# Altium integrated library NXP_60_26022015.IntLib: 1306 symbols (part 24 of 28)
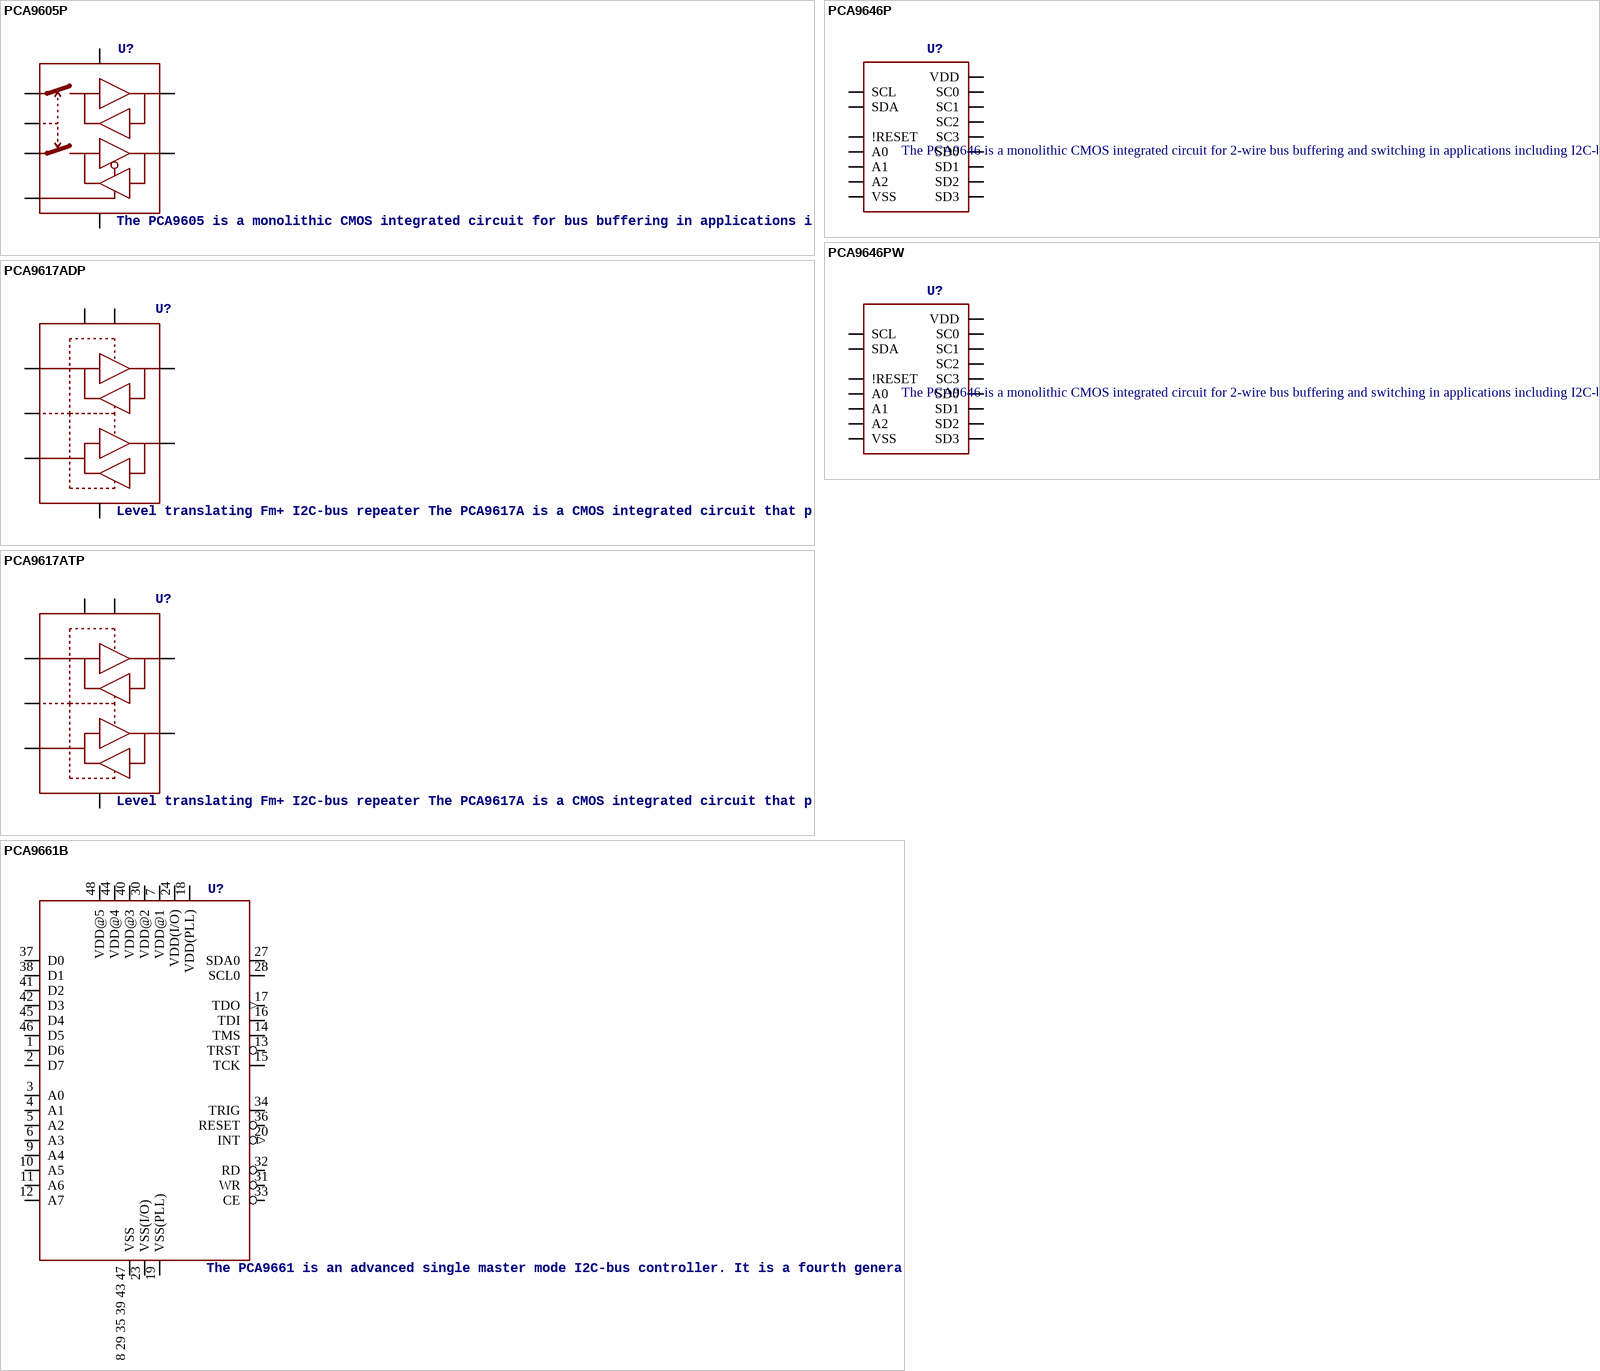
[diagram p208: symbols PCA9605P to PCA9661B]

## PCA9617ADP
designator U?, comment Level translating Fm+ I2C-bus repeater The PCA9617A is a CMOS integrated circuit that provides level shifting between low voltage (0.8 V to 5.5 V) and higher voltage (2.2 V to 5.5 V) Fast-mode Plus (Fm+) I2 C-bus or SMBus applications. While retaining all the operating modes and features of the I 2 C-bus system during the level shifts, it also permits extension of the I2 C-bus by providing bidirectional buffering for both the data (SDA) and the clock (SCL) lines, thus enabling two buses of 540 pF at 1 MHz or up to 4000 pF at lower speeds. Using the PCA9617A enables the system designer to isolate two halves of a bus for both voltage and capacitance. The SDA and SCL pins are overvoltage tolerant and are high-impedance when the PCA9617A is unpowered. The 2.2 V to 5.5 V bus port B drivers have the static level offset, while the adjustable voltage bus port A drivers eliminate the static offset voltage. This results in a LOW on the port B translating into a nearly 0 V LOW on the port A which accommodates the smaller voltage swings of lower voltage logic. The static offset design of the port B PCA9617A I/O drivers prevents them from being connected to the static or incremented offset of other bus buffers. Port A of two or more PCA9617As can be connected together, however, to allow a star topography with port A on the common bus, and port A can be connected directly to any other buffer with static or incremented offset outputs. Multiple PCA9617As can be connected in series, port A to port B, with no build-up in offset voltage with only time of flight delays to consider. The PCA9617A drivers are not enabled unless VCC(A) is above 0.8 V and VCC(B) is above 2.2 V. The EN pin is referenced to VCC(B) and can also be used to turn the drivers on and off under system control. Caution should be observed to only change the state of the enable pin when the bus is idle. The output pull-down on the port B internal buffer LOW is set for approximately 0.55 V, while the input threshold of the internal buffer is set about 90 mV lower (0.45 V). When the port B I/O is driven LOW internally, the LOW is not recognized as a LOW by the input. This prevents a latching condition from occurring. The output pull-down on port A drives a hard LOW and the input level is set at 0.35VCC(A) to accommodate the need for a lower LOW level in systems where the low voltage side supply voltage is as low as 0.8 V.    AAL Eindhoven MK
footprint SOT505-1
pins: 1 VCC(A) (power), 2 SCLA, 3 SDAA, 4 GND (power), 5 EN, 6 SDAB, 7 SCLB, 8 VCC(B) (power)

## PCA9617ATP
designator U?, comment Level translating Fm+ I2C-bus repeater The PCA9617A is a CMOS integrated circuit that provides level shifting between low voltage (0.8 V to 5.5 V) and higher voltage (2.2 V to 5.5 V) Fast-mode Plus (Fm+) I2 C-bus or SMBus applications. While retaining all the operating modes and features of the I 2 C-bus system during the level shifts, it also permits extension of the I2 C-bus by providing bidirectional buffering for both the data (SDA) and the clock (SCL) lines, thus enabling two buses of 540 pF at 1 MHz or up to 4000 pF at lower speeds. Using the PCA9617A enables the system designer to isolate two halves of a bus for both voltage and capacitance. The SDA and SCL pins are overvoltage tolerant and are high-impedance when the PCA9617A is unpowered. The 2.2 V to 5.5 V bus port B drivers have the static level offset, while the adjustable voltage bus port A drivers eliminate the static offset voltage. This results in a LOW on the port B translating into a nearly 0 V LOW on the port A which accommodates the smaller voltage swings of lower voltage logic. The static offset design of the port B PCA9617A I/O drivers prevents them from being connected to the static or incremented offset of other bus buffers. Port A of two or more PCA9617As can be connected together, however, to allow a star topography with port A on the common bus, and port A can be connected directly to any other buffer with static or incremented offset outputs. Multiple PCA9617As can be connected in series, port A to port B, with no build-up in offset voltage with only time of flight delays to consider. The PCA9617A drivers are not enabled unless VCC(A) is above 0.8 V and VCC(B) is above 2.2 V. The EN pin is referenced to VCC(B) and can also be used to turn the drivers on and off under system control. Caution should be observed to only change the state of the enable pin when the bus is idle. The output pull-down on the port B internal buffer LOW is set for approximately 0.55 V, while the input threshold of the internal buffer is set about 90 mV lower (0.45 V). When the port B I/O is driven LOW internally, the LOW is not recognized as a LOW by the input. This prevents a latching condition from occurring. The output pull-down on port A drives a hard LOW and the input level is set at 0.35VCC(A) to accommodate the need for a lower LOW level in systems where the low voltage side supply voltage is as low as 0.8 V.    AAL Eindhoven MK
footprint SOT1069-2
pins: 1 SDAA, 2 GND (power), 3 EN, 4 SDAB, 5 SCLB, 6 VCC(B) (power), 7 VCC(A) (power), 8 SCLA

## PCA9646P
designator U?, comment The PCA9646 is a monolithic CMOS integrated circuit for 2-wire bus buffering and switching in applications including I2C-bus, SMBus, PMBus, and other systems based on similar principles.   AAL Eindhoven MK
footprint SOT109-1
pins: 1 A0, 2 A1, 3 !RESET, 4 SD0, 5 SC0, 6 SD1, 7 SC1, 8 VSS (power), 9 SD2, 10 SC2, 11 SD3, 12 SC3, 13 A2, 14 SCL, 15 SDA, 16 VDD (power)

## PCA9646PW
designator U?, comment The PCA9646 is a monolithic CMOS integrated circuit for 2-wire bus buffering and switching in applications including I2C-bus, SMBus, PMBus, and other systems based on similar principles.   AAL Eindhoven MK
footprint SOT403-1
pins: 1 A0, 2 A1, 3 !RESET, 4 SD0, 5 SC0, 6 SD1, 7 SC1, 8 VSS (power), 9 SD2, 10 SC2, 11 SD3, 12 SC3, 13 A2, 14 SCL, 15 SDA, 16 VDD (power)

## PCA9661B
designator U?, comment The PCA9661 is an advanced single master mode I2C-bus controller. It is a fourth generation bus controller designed for data intensive I2C-bus data transfers. AAL Eindhoven MK
footprint SOT313-2
pins: 1 D6, 2 D7, 3 A0, 4 A1, 5 A2, 6 A3, 7 VDD@1 (power), 8 29 35 39 43 47 VSS (power), 9 A4, 10 A5, 11 A6, 12 A7, 13 TRST, 14 TMS, 15 TCK, 16 TDI, 17 TDO (out), 18 VDD(PLL) (power), 19 VSS(PLL) (power), 20 INT (out), 23 VSS(I/O) (power), 24 VDD(I/O) (power), 27 SDA0, 28 SCL0, 30 VDD@2 (power), 31 WR, 32 RD, 33 CE, 34 TRIG, 36 RESET, 37 D0, 38 D1, 40 VDD@3 (power), 41 D2, 42 D3, 44 VDD@4 (power), 45 D4, 46 D5, 48 VDD@5 (power)

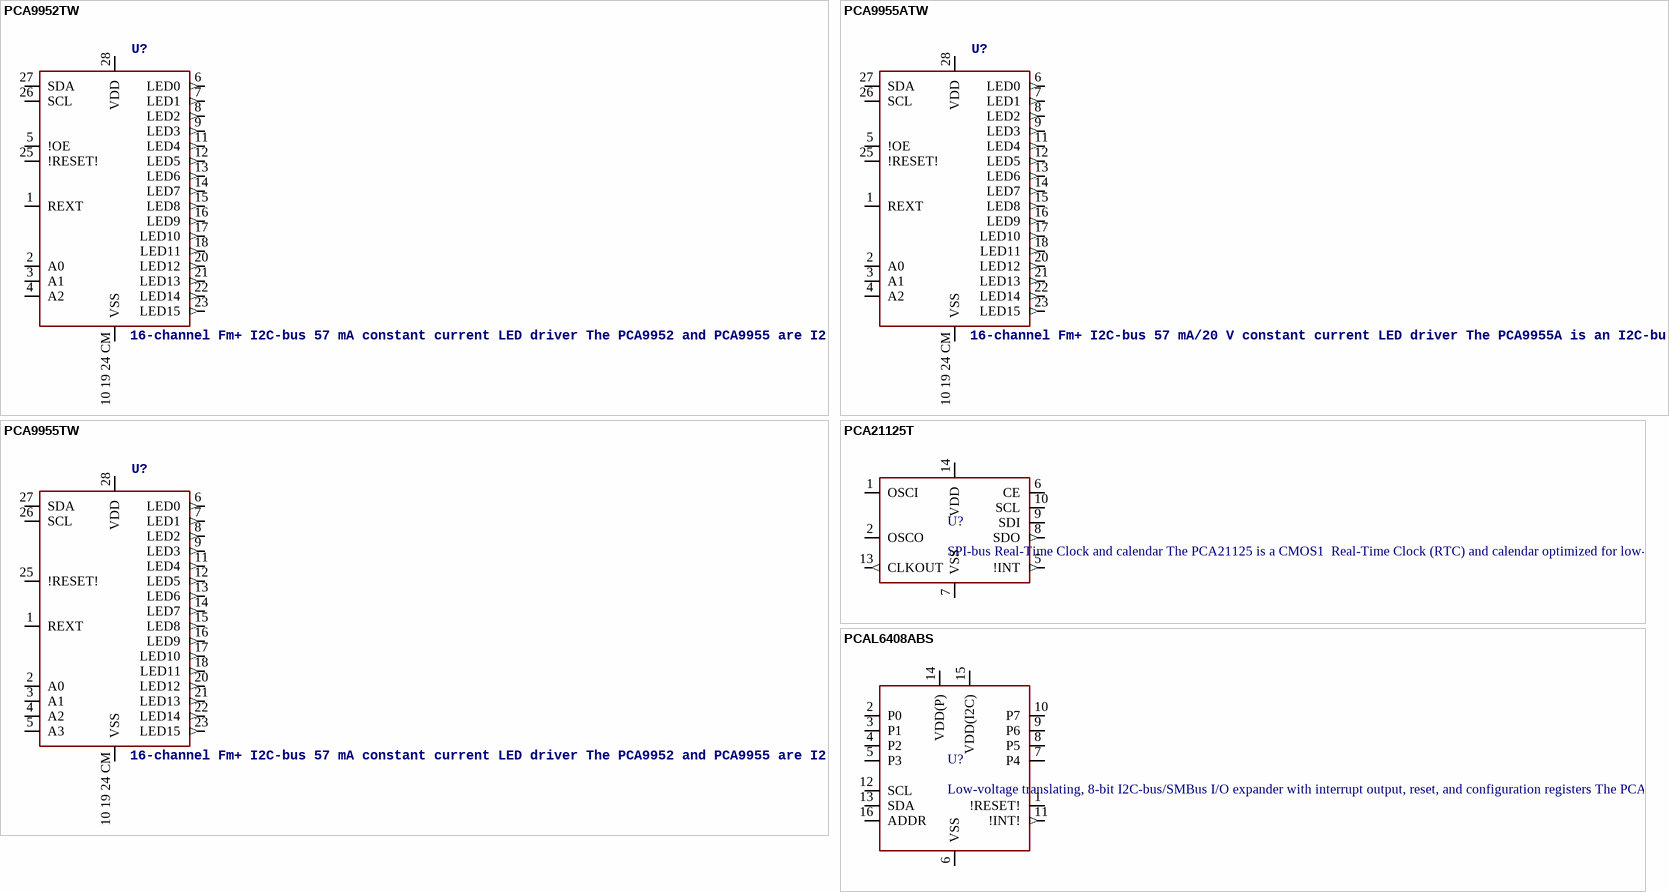
[diagram p161: symbols PCA9952TW to PCAL6408ABS]

## PCA9952TW
designator U?, comment 16-channel Fm+ I2C-bus 57 mA constant current LED driver The PCA9952 and PCA9955 are I2 C-bus controlled 16-channel constant current LED driver optimized for dimming and blinking 57 mA Red/Green/Blue/Amber (RGBA) LEDs in amusement products. Each LEDn output has its own 8-bit resolution (256 steps) fixed frequency individual PWM controller that operates at 31.25 kHz with a duty cycle that is adjustable from 0 % to 99.6 % to allow the LED to be set to a specific brightness value. An additional 8-bit resolution (256 steps) group PWM controller has both a fixed frequency of 122 Hz and an adjustable frequency between 15 Hz to once every 16.8 seconds with a duty cycle that is adjustable from 0 % to 99.6 % that is used to either dim or blink all LEDs with the same value. Each LEDn output can be off, on (no PWM control), set at its individual PWM controller value or at both individual and group PWM controller values. The PCA9952 and PCA9955 operate with a supply voltage range of 3 V to 5.5 V and the constant current sink LEDn outputs allow up to 40 V for the LED supply. The output peak current is adjustable with an 8-bit linear DAC from 225 uA to 57 mA. These devices have built-in open, short load and overtemperature detection circuitry. The error information from the corresponding register can be read via the I2 C-bus. Additionally, a thermal shutdown feature protects the device when internal junction temperature exceeds the limit allowed for the process. The PCA9952 and PCA9955 devices have Fast-mode Plus (Fm+) I2 C-bus interface. Fm+ devices offer higher frequency (up to 1 MHz) or more densely populated bus operation (up to 4000 pF). The PCA9952 is identical to PCA9955 except for the following differences: The PCA9952 has only three hardware address pins compared to four on PCA9955.  The PCA9952 has an output enable pin (OE) and the PCA9955 does not.   The active LOW output enable input pin (OE), available only on PCA9952, blinks all the LEDn outputs and can be used to externally PWM the outputs, which is useful when multiple devices need to be dimmed or blinked together without using software control. Software programmable LED Group and three Sub Call I2 C-bus addresses allow all or defined groups of PCA9952/55 devices to respond to a common I2 C-bus address, allowing for example, all red LEDs to be turned on or off at the same time or marquee chasing effect, thus minimizing I2 C-bus commands. On power-up, PCA9952/55 will have a unique Sub Call address to identify it as a 16-channel LED driver. This allows mixing of devices with different channel widths. Four hardware address pins on PCA9955 allow up to 16 devices on the same bus. In the case of PCA9952, three hardware address pins allow up to 8 devices on the same bus. The Software Reset (SWRST) function allows the master to perform a reset of the PCA9952/55 through the I2 C-bus, identical to the Power-On Reset (POR) that initializes the registers to their default state causing the output current switches to be OFF (LED off). This allows an easy and quick way to reconfigure all device registers to the same condition.    AAL Eindhoven MK
footprint SOT1172-2
pins: 1 REXT, 2 A0, 3 A1, 4 A2, 5 !OE, 6 LED0 (out), 7 LED1 (out), 8 LED2 (out), 9 LED3 (out), 10 19 24 CM VSS (power), 11 LED4 (out), 12 LED5 (out), 13 LED6 (out), 14 LED7 (out), 15 LED8 (out), 16 LED9 (out), 17 LED10 (out), 18 LED11 (out), 20 LED12 (out), 21 LED13 (out), 22 LED14 (out), 23 LED15 (out), 25 !RESET!, 26 SCL, 27 SDA, 28 VDD (power)

## PCA9955ATW
designator U?, comment 16-channel Fm+ I2C-bus 57 mA/20 V constant current LED driver The PCA9955A is an I2C-bus controlled 16-channel constant current LED driver optimized for dimming and blinking 57 mA Red/Green/Blue/Amber (RGBA) LEDs in amusement products. Each LED output has its own 8-bit resolution (256 steps) fixed frequency individual PWM controller that operates at 31.25 kHz with a duty cycle that is adjustable from 0 % to 100 % to allow the LED to be set to a specific brightness value. An additional 8-bit resolution (256 steps) group PWM controller has both a fixed frequency of 122 Hz and an adjustable frequency between 15 Hz to once every 16.8 seconds with a duty cycle that is adjustable from 0 % to 99.6 % that is used to either dim or blink all LEDs with the same value.    AAL Eindhoven MK
footprint SOT1172-3
pins: 1 REXT, 2 A0, 3 A1, 4 A2, 5 !OE, 6 LED0 (out), 7 LED1 (out), 8 LED2 (out), 9 LED3 (out), 10 19 24 CM VSS (power), 11 LED4 (out), 12 LED5 (out), 13 LED6 (out), 14 LED7 (out), 15 LED8 (out), 16 LED9 (out), 17 LED10 (out), 18 LED11 (out), 20 LED12 (out), 21 LED13 (out), 22 LED14 (out), 23 LED15 (out), 25 !RESET!, 26 SCL, 27 SDA, 28 VDD (power)

## PCA9955TW
designator U?, comment 16-channel Fm+ I2C-bus 57 mA constant current LED driver The PCA9952 and PCA9955 are I2 C-bus controlled 16-channel constant current LED driver optimized for dimming and blinking 57 mA Red/Green/Blue/Amber (RGBA) LEDs in amusement products. Each LEDn output has its own 8-bit resolution (256 steps) fixed frequency individual PWM controller that operates at 31.25 kHz with a duty cycle that is adjustable from 0 % to 99.6 % to allow the LED to be set to a specific brightness value. An additional 8-bit resolution (256 steps) group PWM controller has both a fixed frequency of 122 Hz and an adjustable frequency between 15 Hz to once every 16.8 seconds with a duty cycle that is adjustable from 0 % to 99.6 % that is used to either dim or blink all LEDs with the same value. Each LEDn output can be off, on (no PWM control), set at its individual PWM controller value or at both individual and group PWM controller values. The PCA9952 and PCA9955 operate with a supply voltage range of 3 V to 5.5 V and the constant current sink LEDn outputs allow up to 40 V for the LED supply. The output peak current is adjustable with an 8-bit linear DAC from 225 uA to 57 mA. These devices have built-in open, short load and overtemperature detection circuitry. The error information from the corresponding register can be read via the I2 C-bus. Additionally, a thermal shutdown feature protects the device when internal junction temperature exceeds the limit allowed for the process. The PCA9952 and PCA9955 devices have Fast-mode Plus (Fm+) I2 C-bus interface. Fm+ devices offer higher frequency (up to 1 MHz) or more densely populated bus operation (up to 4000 pF). The PCA9952 is identical to PCA9955 except for the following differences: The PCA9952 has only three hardware address pins compared to four on PCA9955.  The PCA9952 has an output enable pin (OE) and the PCA9955 does not.   The active LOW output enable input pin (OE), available only on PCA9952, blinks all the LEDn outputs and can be used to externally PWM the outputs, which is useful when multiple devices need to be dimmed or blinked together without using software control. Software programmable LED Group and three Sub Call I2 C-bus addresses allow all or defined groups of PCA9952/55 devices to respond to a common I2 C-bus address, allowing for example, all red LEDs to be turned on or off at the same time or marquee chasing effect, thus minimizing I2 C-bus commands. On power-up, PCA9952/55 will have a unique Sub Call address to identify it as a 16-channel LED driver. This allows mixing of devices with different channel widths. Four hardware address pins on PCA9955 allow up to 16 devices on the same bus. In the case of PCA9952, three hardware address pins allow up to 8 devices on the same bus. The Software Reset (SWRST) function allows the master to perform a reset of the PCA9952/55 through the I2 C-bus, identical to the Power-On Reset (POR) that initializes the registers to their default state causing the output current switches to be OFF (LED off). This allows an easy and quick way to reconfigure all device registers to the same condition.    AAL Eindhoven MK
footprint SOT1172-2
pins: 1 REXT, 2 A0, 3 A1, 4 A2, 5 A3, 6 LED0 (out), 7 LED1 (out), 8 LED2 (out), 9 LED3 (out), 10 19 24 CM VSS (power), 11 LED4 (out), 12 LED5 (out), 13 LED6 (out), 14 LED7 (out), 15 LED8 (out), 16 LED9 (out), 17 LED10 (out), 18 LED11 (out), 20 LED12 (out), 21 LED13 (out), 22 LED14 (out), 23 LED15 (out), 25 !RESET!, 26 SCL, 27 SDA, 28 VDD (power)

## PCA21125T
designator U?, comment SPI-bus Real-Time Clock and calendar The PCA21125 is a CMOS1  Real-Time Clock (RTC) and calendar optimized for low-power consumption and an operating temperature up to 125 °C. Data is transferred via a Serial Peripheral Interface (SPI-bus) with a maximum data rate of 6.0 Mbit/s. Alarm and timer functions are also available with the possibility to generate a wake-up signal on the interrupt pin. AEC Q100 compliant for automotive applications.    AAL Eindhoven MK
footprint SOT402-1
pins: 1 OSCI, 2 OSCO, 5 !INT (out), 6 CE, 7 VSS (power), 8 SDO (out), 9 SDI, 10 SCL, 13 CLKOUT (out), 14 VDD (power)

## PCAL6408ABS
designator U?, comment Low-voltage translating, 8-bit I2C-bus/SMBus I/O expander with interrupt output, reset, and configuration registers The PCAL6408A is an 8-bit general purpose I/O expander that provides remote I/O expansion for most microcontroller families via the I2C-bus interface.    AAL Eindhoven MK
footprint SOT758-1
pins: 1 !RESET!, 2 P0, 3 P1, 4 P2, 5 P3, 6 VSS, 7 P4, 8 P5, 9 P6, 10 P7, 11 !INT! (out), 12 SCL, 13 SDA, 14 VDD(P) (power), 15 VDD(I2C) (power), 16 ADDR

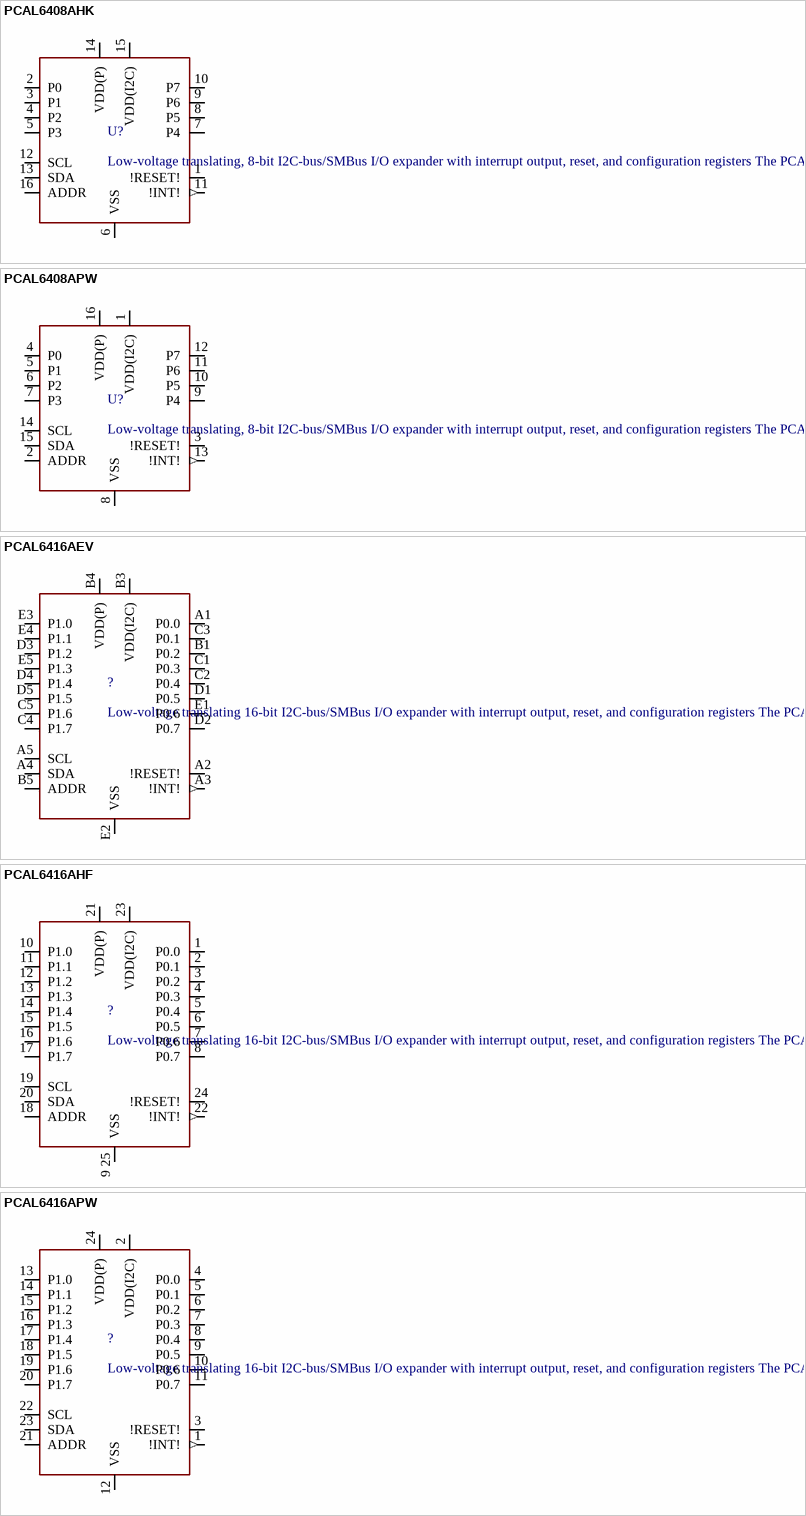
[diagram p162: symbols PCAL6408AHK to PCAL6416APW]

## PCAL6408AHK
designator U?, comment Low-voltage translating, 8-bit I2C-bus/SMBus I/O expander with interrupt output, reset, and configuration registers The PCAL6408A is an 8-bit general purpose I/O expander that provides remote I/O expansion for most microcontroller families via the I2C-bus interface.    AAL Eindhoven MK
footprint SOT1161-1
pins: 1 !RESET!, 2 P0, 3 P1, 4 P2, 5 P3, 6 VSS, 7 P4, 8 P5, 9 P6, 10 P7, 11 !INT! (out), 12 SCL, 13 SDA, 14 VDD(P) (power), 15 VDD(I2C) (power), 16 ADDR

## PCAL6408APW
designator U?, comment Low-voltage translating, 8-bit I2C-bus/SMBus I/O expander with interrupt output, reset, and configuration registers The PCAL6408A is an 8-bit general purpose I/O expander that provides remote I/O expansion for most microcontroller families via the I2C-bus interface.    AAL Eindhoven MK
footprint SOT403-1
pins: 1 VDD(I2C) (power), 2 ADDR, 3 !RESET!, 4 P0, 5 P1, 6 P2, 7 P3, 8 VSS, 9 P4, 10 P5, 11 P6, 12 P7, 13 !INT! (out), 14 SCL, 15 SDA, 16 VDD(P) (power)

## PCAL6416AEV
designator ?, comment Low-voltage translating 16-bit I2C-bus/SMBus I/O expander with interrupt output, reset, and configuration registers The PCAL6416A is a 16-bit general-purpose I/O expander that provides remote I/O expansion for most microcontroller families via the I2C-bus interface. NXP I/O expanders provide a simple solution when additional I/Os are needed while keeping interconnections to a minimum, for example, in battery-powered mobile applications for interfacing to sensors, push buttons, keypad, etc. In addition to providing a flexible set of GPIOs, it simplifies interconnection of a processor running at one voltage level to I/O devices operating at a different (usually higher) voltage level. The PCAL6416A has built-in level shifting feature that makes these devices extremely flexible in mixed signal environments where communication between incompatible I/O voltages is required. Its wide VDD range of 1.65 V to 5.5 V on the dual power rail allows seamless communications with next-generation low voltage microprocessors and microcontrollers on the interface side (SDA/SCL) and peripherals at a higher voltage on the port side. There are two supply voltages for PCAL6416A: VDD(I2C-bus) and VDD(P). VDD(I2C-bus) provides the supply voltage for the interface at the master side (for example, a microcontroller) and the VDD(P) provides the supply for core circuits and Port P. The bidirectional voltage level translation in the PCAL6416A is provided through VDD(I2C-bus). VDD(I2C-bus) should be connected to the VDD of the external SCL/SDA lines. This indicates the VDD level of the I2C-bus to the PCAL6416A, while the voltage level on Port P of the PCAL6416A is determined by the VDD(P). The PCAL6416A contains the PCA6416A register set of four pairs of 8-bit Configuration, Input, Output, and Polarity Inversion registers and additionally, the PCAL6416A has Agile I/O, which are additional features specifically designed to enhance the I/O. These additional features are: programmable output drive strength, latchable inputs, programmable pull-up/pull-down resistors, maskable interrupt, interrupt status register, programmable open-drain or push-pull outputs. The PCAL6416A is a pin-to-pin replacement to the PCA6416A, however, the PCAL6416A powers up with all I/O interrupts masked. This mask default allows for a board bring-up free of spurious interrupts at power-up. At power-on, the I/Os are configured as inputs. However, the system master can enable the I/Os as either inputs or outputs by writing to the I/O configuration bits. The data for each input or output is kept in the corresponding input or output register. The polarity of the Input Port register can be inverted with the Polarity Inversion register, saving external logic gates. Programmable pull-up and pull-down resistors eliminate the need for discrete components.    AAL Eindhoven MK
footprint SOT1199-1
pins: A1 P0.0, A2 !RESET!, A3 !INT! (out), A4 SDA, A5 SCL, B1 P0.2, B3 VDD(I2C) (power), B4 VDD(P) (power), B5 ADDR, C1 P0.3, C2 P0.4, C3 P0.1, C4 P1.7, C5 P1.6, D1 P0.5, D2 P0.7, D3 P1.2, D4 P1.4, D5 P1.5, E1 P0.6, E2 VSS, E3 P1.0, E4 P1.1, E5 P1.3

## PCAL6416AHF
designator ?, comment Low-voltage translating 16-bit I2C-bus/SMBus I/O expander with interrupt output, reset, and configuration registers The PCAL6416A is a 16-bit general-purpose I/O expander that provides remote I/O expansion for most microcontroller families via the I2C-bus interface. NXP I/O expanders provide a simple solution when additional I/Os are needed while keeping interconnections to a minimum, for example, in battery-powered mobile applications for interfacing to sensors, push buttons, keypad, etc. In addition to providing a flexible set of GPIOs, it simplifies interconnection of a processor running at one voltage level to I/O devices operating at a different (usually higher) voltage level. The PCAL6416A has built-in level shifting feature that makes these devices extremely flexible in mixed signal environments where communication between incompatible I/O voltages is required. Its wide VDD range of 1.65 V to 5.5 V on the dual power rail allows seamless communications with next-generation low voltage microprocessors and microcontrollers on the interface side (SDA/SCL) and peripherals at a higher voltage on the port side. There are two supply voltages for PCAL6416A: VDD(I2C-bus) and VDD(P). VDD(I2C-bus) provides the supply voltage for the interface at the master side (for example, a microcontroller) and the VDD(P) provides the supply for core circuits and Port P. The bidirectional voltage level translation in the PCAL6416A is provided through VDD(I2C-bus). VDD(I2C-bus) should be connected to the VDD of the external SCL/SDA lines. This indicates the VDD level of the I2C-bus to the PCAL6416A, while the voltage level on Port P of the PCAL6416A is determined by the VDD(P). The PCAL6416A contains the PCA6416A register set of four pairs of 8-bit Configuration, Input, Output, and Polarity Inversion registers and additionally, the PCAL6416A has Agile I/O, which are additional features specifically designed to enhance the I/O. These additional features are: programmable output drive strength, latchable inputs, programmable pull-up/pull-down resistors, maskable interrupt, interrupt status register, programmable open-drain or push-pull outputs. The PCAL6416A is a pin-to-pin replacement to the PCA6416A, however, the PCAL6416A powers up with all I/O interrupts masked. This mask default allows for a board bring-up free of spurious interrupts at power-up. At power-on, the I/Os are configured as inputs. However, the system master can enable the I/Os as either inputs or outputs by writing to the I/O configuration bits. The data for each input or output is kept in the corresponding input or output register. The polarity of the Input Port register can be inverted with the Polarity Inversion register, saving external logic gates. Programmable pull-up and pull-down resistors eliminate the need for discrete components.    AAL Eindhoven MK
footprint SOT994-1
pins: 1 P0.0, 2 P0.1, 3 P0.2, 4 P0.3, 5 P0.4, 6 P0.5, 7 P0.6, 8 P0.7, 9 25 VSS, 10 P1.0, 11 P1.1, 12 P1.2, 13 P1.3, 14 P1.4, 15 P1.5, 16 P1.6, 17 P1.7, 18 ADDR, 19 SCL, 20 SDA, 21 VDD(P) (power), 22 !INT! (out), 23 VDD(I2C) (power), 24 !RESET!

## PCAL6416APW
designator ?, comment Low-voltage translating 16-bit I2C-bus/SMBus I/O expander with interrupt output, reset, and configuration registers The PCAL6416A is a 16-bit general-purpose I/O expander that provides remote I/O expansion for most microcontroller families via the I2C-bus interface. NXP I/O expanders provide a simple solution when additional I/Os are needed while keeping interconnections to a minimum, for example, in battery-powered mobile applications for interfacing to sensors, push buttons, keypad, etc. In addition to providing a flexible set of GPIOs, it simplifies interconnection of a processor running at one voltage level to I/O devices operating at a different (usually higher) voltage level. The PCAL6416A has built-in level shifting feature that makes these devices extremely flexible in mixed signal environments where communication between incompatible I/O voltages is required. Its wide VDD range of 1.65 V to 5.5 V on the dual power rail allows seamless communications with next-generation low voltage microprocessors and microcontrollers on the interface side (SDA/SCL) and peripherals at a higher voltage on the port side. There are two supply voltages for PCAL6416A: VDD(I2C-bus) and VDD(P). VDD(I2C-bus) provides the supply voltage for the interface at the master side (for example, a microcontroller) and the VDD(P) provides the supply for core circuits and Port P. The bidirectional voltage level translation in the PCAL6416A is provided through VDD(I2C-bus). VDD(I2C-bus) should be connected to the VDD of the external SCL/SDA lines. This indicates the VDD level of the I2C-bus to the PCAL6416A, while the voltage level on Port P of the PCAL6416A is determined by the VDD(P). The PCAL6416A contains the PCA6416A register set of four pairs of 8-bit Configuration, Input, Output, and Polarity Inversion registers and additionally, the PCAL6416A has Agile I/O, which are additional features specifically designed to enhance the I/O. These additional features are: programmable output drive strength, latchable inputs, programmable pull-up/pull-down resistors, maskable interrupt, interrupt status register, programmable open-drain or push-pull outputs. The PCAL6416A is a pin-to-pin replacement to the PCA6416A, however, the PCAL6416A powers up with all I/O interrupts masked. This mask default allows for a board bring-up free of spurious interrupts at power-up. At power-on, the I/Os are configured as inputs. However, the system master can enable the I/Os as either inputs or outputs by writing to the I/O configuration bits. The data for each input or output is kept in the corresponding input or output register. The polarity of the Input Port register can be inverted with the Polarity Inversion register, saving external logic gates. Programmable pull-up and pull-down resistors eliminate the need for discrete components.    AAL Eindhoven MK
footprint SOT355-1
pins: 1 !INT! (out), 2 VDD(I2C) (power), 3 !RESET!, 4 P0.0, 5 P0.1, 6 P0.2, 7 P0.3, 8 P0.4, 9 P0.5, 10 P0.6, 11 P0.7, 12 VSS, 13 P1.0, 14 P1.1, 15 P1.2, 16 P1.3, 17 P1.4, 18 P1.5, 19 P1.6, 20 P1.7, 21 ADDR, 22 SCL, 23 SDA, 24 VDD(P) (power)

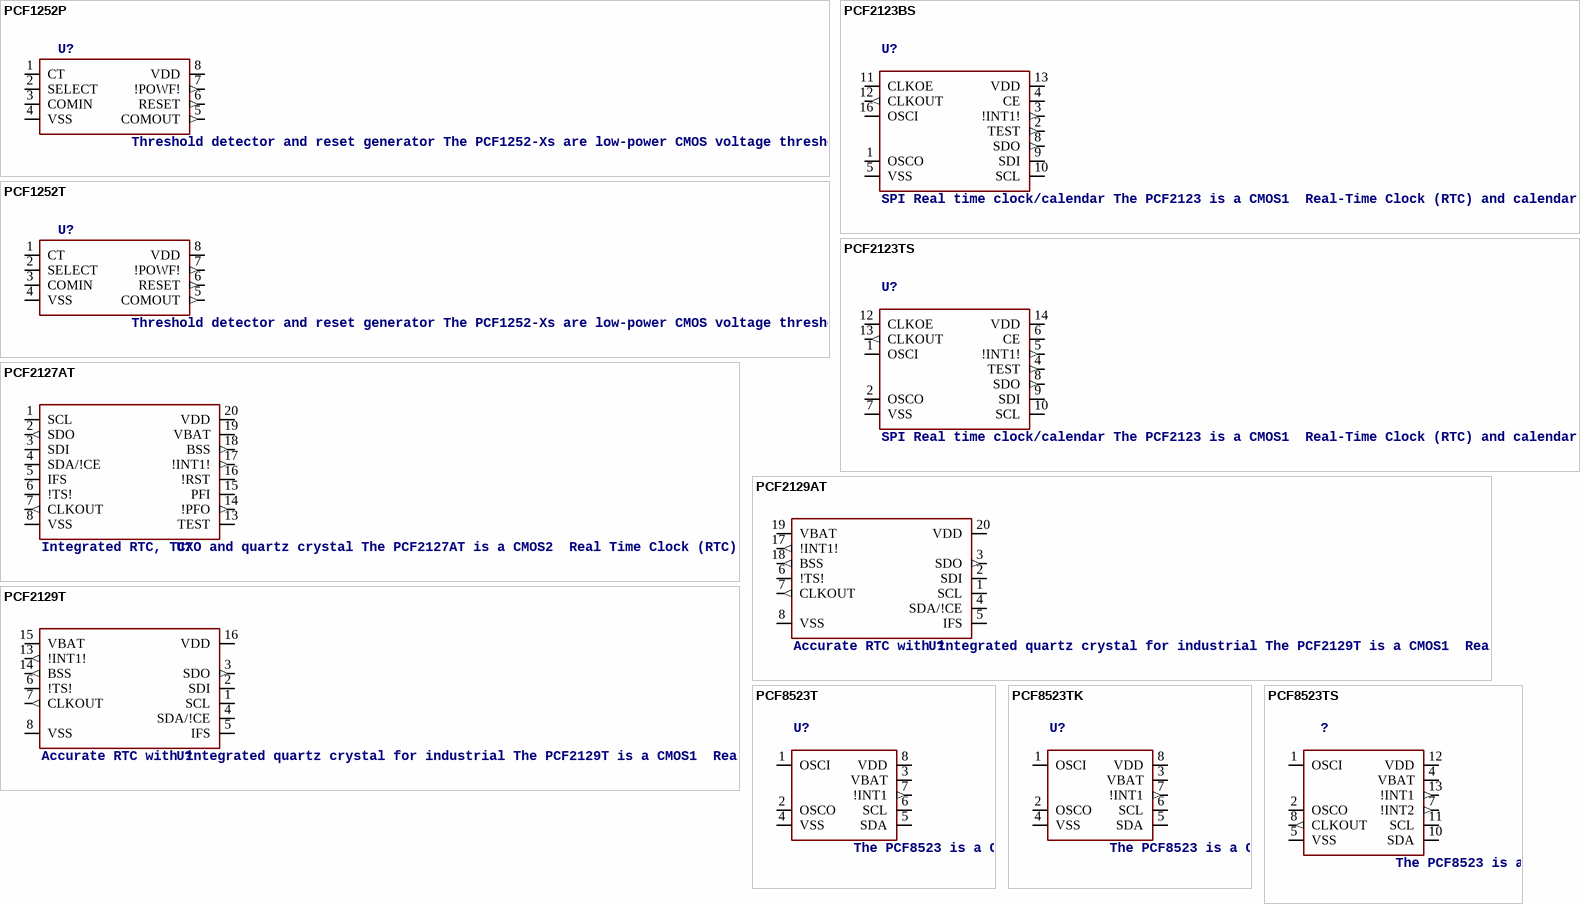
[diagram p163: symbols PCF1252P to PCF8523TS]

## PCF1252P
designator U?, comment Threshold detector and reset generator The PCF1252-Xs are low-power CMOS voltage threshold detectors designed especially for supervision of microcontroller/microprocessor systems for detection of power-on/off conditions and generation of a system reset pulse. The PCF1252-X also provides a POWF (power fail) output which is activated at a precise factory-programmed trip point. A system RESET output has a built-in delay with duration determined by an external capacitor (CCT). A second comparator (comparator 2) has been included to enable the possibility of a second monitoring point in the system.    AAL Eindhoven MK
footprint SOT97-1
pins: 1 CT, 2 SELECT, 3 COMIN, 4 VSS (power), 5 COMOUT (out), 6 RESET (out), 7 !POWF! (out), 8 VDD (power)

## PCF1252T
designator U?, comment Threshold detector and reset generator The PCF1252-Xs are low-power CMOS voltage threshold detectors designed especially for supervision of microcontroller/microprocessor systems for detection of power-on/off conditions and generation of a system reset pulse. The PCF1252-X also provides a POWF (power fail) output which is activated at a precise factory-programmed trip point. A system RESET output has a built-in delay with duration determined by an external capacitor (CCT). A second comparator (comparator 2) has been included to enable the possibility of a second monitoring point in the system.    AAL Eindhoven MK
footprint SOT96-1
pins: 1 CT, 2 SELECT, 3 COMIN, 4 VSS (power), 5 COMOUT (out), 6 RESET (out), 7 !POWF! (out), 8 VDD (power)

## PCF2123BS
designator U?, comment SPI Real time clock/calendar The PCF2123 is a CMOS1  Real-Time Clock (RTC) and calendar optimized for low power applications. Data is transferred serially via a Serial Peripheral Interface (SPI-bus) with a maximum data rate of 6.25 Mbit/s. An alarm and timer function is also available providing the possibility to generate a wake-up signal on an interrupt pin. An offset register allows fine tuning of the clock.    AAL Eindhoven MK
footprint SOT758-1
pins: 1 OSCO, 2 TEST (out), 3 !INT1! (out), 4 CE, 5 VSS (power), 8 SDO (out), 9 SDI, 10 SCL, 11 CLKOE, 12 CLKOUT (out), 13 VDD (power), 16 OSCI

## PCF2123TS
designator U?, comment SPI Real time clock/calendar The PCF2123 is a CMOS1  Real-Time Clock (RTC) and calendar optimized for low power applications. Data is transferred serially via a Serial Peripheral Interface (SPI-bus) with a maximum data rate of 6.25 Mbit/s. An alarm and timer function is also available providing the possibility to generate a wake-up signal on an interrupt pin. An offset register allows fine tuning of the clock.    AAL Eindhoven MK
footprint SOT402-1
pins: 1 OSCI, 2 OSCO, 4 TEST (out), 5 !INT1! (out), 6 CE, 7 VSS (power), 8 SDO (out), 9 SDI, 10 SCL, 12 CLKOE, 13 CLKOUT (out), 14 VDD (power)

## PCF2127AT
designator U?, comment Integrated RTC, TCXO and quartz crystal The PCF2127AT is a CMOS2  Real Time Clock (RTC) and calendar with an integrated Temperature Compensated Crystal (Xtal) Oscillator (TCXO) and a 32.768 kHz quartz crystal optimized for very high accuracy and very low power consumption. The PCF2127AT has 512 bytes of general purpose static RAM, a selectable I2C-bus or SPI-bus, a backup battery switch-over circuit, a programmable watchdog function, a timestamp function, and many other features.    AAL Eindhoven MK
footprint SOT163-1
pins: 1 SCL, 2 SDO (out), 3 SDI, 4 SDA/!CE, 5 IFS, 6 !TS!, 7 CLKOUT (out), 8 VSS (power), 13 TEST, 14 !PFO (out), 15 PFI, 16 !RST, 17 !INT1! (out), 18 BSS (out), 19 VBAT (power), 20 VDD (power)

## PCF2129AT
designator U?, comment Accurate RTC with integrated quartz crystal for industrial The PCF2129T is a CMOS1  Real Time Clock (RTC) and calendar with an integrated Temperature Compensated Crystal (Xtal) Oscillator (TCXO) and a 32.768 kHz quartz crystal optimized for very high accuracy and very low power consumption. The PCF2129T has a selectable I2C-bus or SPI-bus, a backup battery switch-over circuit, a programmable watchdog function, a timestamp function, and many other features.    AAL Eindhoven MK
TEMPERATURE_RANGE: -15 °C to +60 °C
footprint SOT163-1
pins: 1 SCL, 2 SDI, 3 SDO (out), 4 SDA/!CE, 5 IFS, 6 !TS!, 7 CLKOUT (out), 8 VSS (power), 17 !INT1! (out), 18 BSS (out), 19 VBAT (power), 20 VDD (power)

## PCF2129T
designator U?, comment Accurate RTC with integrated quartz crystal for industrial The PCF2129T is a CMOS1  Real Time Clock (RTC) and calendar with an integrated Temperature Compensated Crystal (Xtal) Oscillator (TCXO) and a 32.768 kHz quartz crystal optimized for very high accuracy and very low power consumption. The PCF2129T has a selectable I2C-bus or SPI-bus, a backup battery switch-over circuit, a programmable watchdog function, a timestamp function, and many other features.    AAL Eindhoven MK
TEMPERATURE_RANGE: -15 °C to +60 °C
footprint SOT162-1
pins: 1 SCL, 2 SDI, 3 SDO (out), 4 SDA/!CE, 5 IFS, 6 !TS!, 7 CLKOUT (out), 8 VSS (power), 13 !INT1! (out), 14 BSS (out), 15 VBAT (power), 16 VDD (power)

## PCF8523T
designator U?, comment The PCF8523 is a CMOS Real-Time Clock (RTC) and calendar optimized for low power consumption. Data is transferred serially via an I2C-bus with a maximum data rate of 1000 kbit/s. Alarm and timer functions are available with the possibility to generate a wake-up signal on an interrupt pin. An offset register allows fine-tuning of the clock. The PCF8523 has a backup battery switch-over circuit, which detects power failures and automatically switches to the battery supply when a power failure occurs.   AAL Eindhoven MK
footprint SOT96-1
pins: 1 OSCI, 2 OSCO, 3 VBAT (power), 4 VSS (power), 5 SDA, 6 SCL, 7 !INT1 (out), 8 VDD (power)

## PCF8523TK
designator U?, comment The PCF8523 is a CMOS Real-Time Clock (RTC) and calendar optimized for low power consumption. Data is transferred serially via an I2C-bus with a maximum data rate of 1000 kbit/s. Alarm and timer functions are available with the possibility to generate a wake-up signal on an interrupt pin. An offset register allows fine-tuning of the clock. The PCF8523 has a backup battery switch-over circuit, which detects power failures and automatically switches to the battery supply when a power failure occurs.   AAL Eindhoven MK
footprint SOT909-1
pins: 1 OSCI, 2 OSCO, 3 VBAT (power), 4 VSS (power), 5 SDA, 6 SCL, 7 !INT1 (out), 8 VDD (power)

## PCF8523TS
designator ?, comment The PCF8523 is a CMOS Real-Time Clock (RTC) and calendar optimized for low power consumption. Data is transferred serially via an I2C-bus with a maximum data rate of 1000 kbit/s. Alarm and timer functions are available with the possibility to generate a wake-up signal on an interrupt pin. An offset register allows fine-tuning of the clock. The PCF8523 has a backup battery switch-over circuit, which detects power failures and automatically switches to the battery supply when a power failure occurs.   AAL Eindhoven MK
footprint SOT402-1
pins: 1 OSCI, 2 OSCO, 4 VBAT (power), 5 VSS (power), 7 !INT2 (out), 8 CLKOUT (out), 10 SDA, 11 SCL, 12 VDD (power), 13 !INT1 (out)

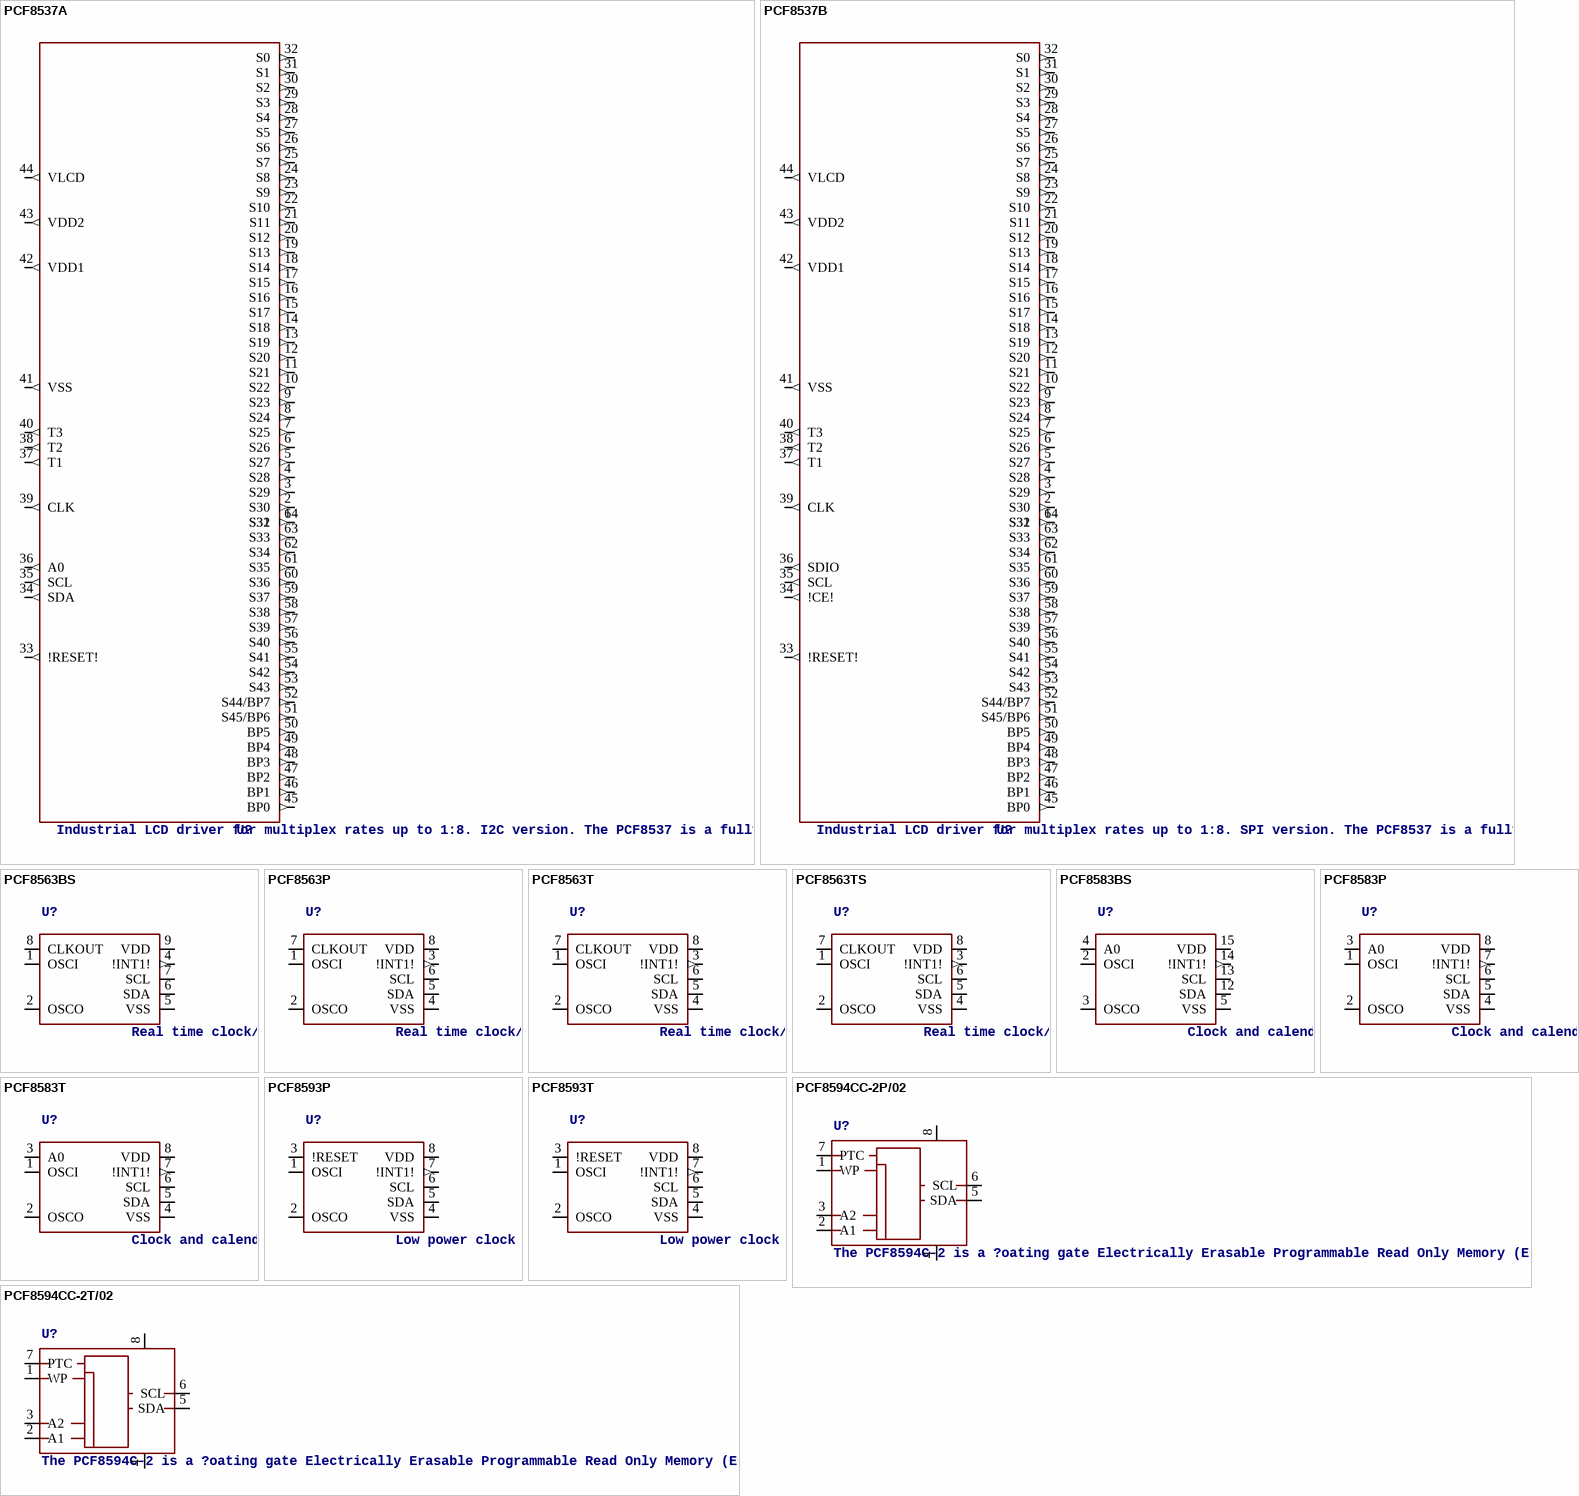
[diagram p164: symbols PCF8537A to PCF8594CC-2T/02]

## PCF8537A
designator U?, comment Industrial LCD driver for multiplex rates up to 1:8. I2C version. The PCF8537 is a fully featured Liquid Crystal Display (LCD) driver, specifically designed for high-contrast Vertical Alignment (VA) LCD with multiplex rates up to 1:8. It generates the drive signals for any static or multiplexed LCD containing up to eight backplanes, 46 segments, and up to 352 elements. The PCF8537 features an internal charge pump with internal capacitors for on-chip generation of the LCD driving voltage. To ensure an optimal and stable contrast over the full temperature range, the PCF8537 offers a programmable temperature compensation of the LCD supply voltage. The PCF8537 can be easily connected to a microcontroller by either the two-line I2C-bus (PCF8537AH) or a three-line bidirectional SPI-bus (PCF8537BH). AAL Eindhoven MK
footprint SOT357-1
pins: 1 S31 (out), 2 S30 (out), 3 S29 (out), 4 S28 (out), 5 S27 (out), 6 S26 (out), 7 S25 (out), 8 S24 (out), 9 S23 (out), 10 S22 (out), 11 S21 (out), 12 S20 (out), 13 S19 (out), 14 S18 (out), 15 S17 (out), 16 S16 (out), 17 S15 (out), 18 S14 (out), 19 S13 (out), 20 S12 (out), 21 S11 (out), 22 S10 (out), 23 S9 (out), 24 S8 (out), 25 S7 (out), 26 S6 (out), 27 S5 (out), 28 S4 (out), 29 S3 (out), 30 S2 (out), 31 S1 (out), 32 S0 (out), 33 !RESET! (out), 34 SDA (out), 35 SCL (out), 36 A0 (out), 37 T1 (out), 38 T2 (out), 39 CLK (out), 40 T3 (out), 41 VSS (out), 42 VDD1 (out), 43 VDD2 (out), 44 VLCD (out), 45 BP0 (out), 46 BP1 (out), 47 BP2 (out), 48 BP3 (out), 49 BP4 (out), 50 BP5 (out), 51 S45/BP6 (out), 52 S44/BP7 (out), 53 S43 (out), 54 S42 (out), 55 S41 (out), 56 S40 (out), 57 S39 (out), 58 S38 (out), 59 S37 (out), 60 S36 (out), 61 S35 (out), 62 S34 (out), 63 S33 (out), 64 S32 (out)

## PCF8537B
designator U?, comment Industrial LCD driver for multiplex rates up to 1:8. SPI version. The PCF8537 is a fully featured Liquid Crystal Display (LCD) driver, specifically designed for high-contrast Vertical Alignment (VA) LCD with multiplex rates up to 1:8. It generates the drive signals for any static or multiplexed LCD containing up to eight backplanes, 46 segments, and up to 352 elements. The PCF8537 features an internal charge pump with internal capacitors for on-chip generation of the LCD driving voltage. To ensure an optimal and stable contrast over the full temperature range, the PCF8537 offers a programmable temperature compensation of the LCD supply voltage. The PCF8537 can be easily connected to a microcontroller by either the two-line I2C-bus (PCF8537AH) or a three-line bidirectional SPI-bus (PCF8537BH).    AAL Eindhoven MK
footprint SOT357-1
pins: 1 S31 (out), 2 S30 (out), 3 S29 (out), 4 S28 (out), 5 S27 (out), 6 S26 (out), 7 S25 (out), 8 S24 (out), 9 S23 (out), 10 S22 (out), 11 S21 (out), 12 S20 (out), 13 S19 (out), 14 S18 (out), 15 S17 (out), 16 S16 (out), 17 S15 (out), 18 S14 (out), 19 S13 (out), 20 S12 (out), 21 S11 (out), 22 S10 (out), 23 S9 (out), 24 S8 (out), 25 S7 (out), 26 S6 (out), 27 S5 (out), 28 S4 (out), 29 S3 (out), 30 S2 (out), 31 S1 (out), 32 S0 (out), 33 !RESET! (out), 34 !CE! (out), 35 SCL (out), 36 SDIO (out), 37 T1 (out), 38 T2 (out), 39 CLK (out), 40 T3 (out), 41 VSS (out), 42 VDD1 (out), 43 VDD2 (out), 44 VLCD (out), 45 BP0 (out), 46 BP1 (out), 47 BP2 (out), 48 BP3 (out), 49 BP4 (out), 50 BP5 (out), 51 S45/BP6 (out), 52 S44/BP7 (out), 53 S43 (out), 54 S42 (out), 55 S41 (out), 56 S40 (out), 57 S39 (out), 58 S38 (out), 59 S37 (out), 60 S36 (out), 61 S35 (out), 62 S34 (out), 63 S33 (out), 64 S32 (out)

## PCF8563BS
designator U?, comment Real time clock/calendar The PCF8563 is a CMOS Real-Time Clock (RTC) and calendar optimized for low power consumption. A programmable clock output, interrupt output, and voltage-low detector are also provided. All addresses and data are transferred serially via a two-line bidirectional I2C-bus. Maximum bus speed is 400 kbit/s. The register address is incremented automatically after each written or read data byte.    AAL Eindhoven MK
footprint SOT650
pins: 1 OSCI, 2 OSCO, 4 !INT1! (out), 5 VSS (power), 6 SDA, 7 SCL, 8 CLKOUT (power), 9 VDD (power)

## PCF8563P
designator U?, comment Real time clock/calendar The PCF8563 is a CMOS Real-Time Clock (RTC) and calendar optimized for low power consumption. A programmable clock output, interrupt output, and voltage-low detector are also provided. All addresses and data are transferred serially via a two-line bidirectional I2C-bus. Maximum bus speed is 400 kbit/s. The register address is incremented automatically after each written or read data byte.    AAL Eindhoven MK
footprint SOT97-1
pins: 1 OSCI, 2 OSCO, 3 !INT1! (out), 4 VSS (power), 5 SDA, 6 SCL, 7 CLKOUT (power), 8 VDD (power)

## PCF8563T
designator U?, comment Real time clock/calendar The PCF8563 is a CMOS Real-Time Clock (RTC) and calendar optimized for low power consumption. A programmable clock output, interrupt output, and voltage-low detector are also provided. All addresses and data are transferred serially via a two-line bidirectional I2C-bus. Maximum bus speed is 400 kbit/s. The register address is incremented automatically after each written or read data byte.    AAL Eindhoven MK
footprint SOT96-1
pins: 1 OSCI, 2 OSCO, 3 !INT1! (out), 4 VSS (power), 5 SDA, 6 SCL, 7 CLKOUT (power), 8 VDD (power)

## PCF8563TS
designator U?, comment Real time clock/calendar The PCF8563 is a CMOS Real-Time Clock (RTC) and calendar optimized for low power consumption. A programmable clock output, interrupt output, and voltage-low detector are also provided. All addresses and data are transferred serially via a two-line bidirectional I2C-bus. Maximum bus speed is 400 kbit/s. The register address is incremented automatically after each written or read data byte.    AAL Eindhoven MK
footprint SOT505-1
pins: 1 OSCI, 2 OSCO, 3 !INT1! (out), 4 VSS (power), 5 SDA, 6 SCL, 7 CLKOUT (power), 8 VDD (power)

## PCF8583BS
designator U?, comment Clock and calendar with 240 x 8-bit RAM The PCF8583 is a clock and calendar chip, based on a 2048 bit static CMOS  RAM organized as 256 words by 8 bits. Addresses and data are transferred serially via the two-line bidirectional I2C-bus. The built-in word address register is incremented automatically after each written or read data byte. Address pin A0 is used for programming the hardware address, allowing the connection of two devices to the bus without additional hardware. The built-in 32.768 kHz oscillator circuit and the first 8 bytes of the RAM are used for the clock, calendar, and counter functions. The next 8 bytes can be programmed as alarm registers or used as free RAM space. The remaining 240 bytes are free RAM locations.    AAL Eindhoven MK
footprint SOT662-1
pins: 2 OSCI, 3 OSCO, 4 A0 (power), 5 VSS (power), 12 SDA, 13 SCL, 14 !INT1! (out), 15 VDD (power)

## PCF8583P
designator U?, comment Clock and calendar with 240 x 8-bit RAM The PCF8583 is a clock and calendar chip, based on a 2048 bit static CMOS  RAM organized as 256 words by 8 bits. Addresses and data are transferred serially via the two-line bidirectional I2C-bus. The built-in word address register is incremented automatically after each written or read data byte. Address pin A0 is used for programming the hardware address, allowing the connection of two devices to the bus without additional hardware. The built-in 32.768 kHz oscillator circuit and the first 8 bytes of the RAM are used for the clock, calendar, and counter functions. The next 8 bytes can be programmed as alarm registers or used as free RAM space. The remaining 240 bytes are free RAM locations.    AAL Eindhoven MK
footprint SOT97-1
pins: 1 OSCI, 2 OSCO, 3 A0 (power), 4 VSS (power), 5 SDA, 6 SCL, 7 !INT1! (out), 8 VDD (power)

## PCF8583T
designator U?, comment Clock and calendar with 240 x 8-bit RAM The PCF8583 is a clock and calendar chip, based on a 2048 bit static CMOS  RAM organized as 256 words by 8 bits. Addresses and data are transferred serially via the two-line bidirectional I2C-bus. The built-in word address register is incremented automatically after each written or read data byte. Address pin A0 is used for programming the hardware address, allowing the connection of two devices to the bus without additional hardware. The built-in 32.768 kHz oscillator circuit and the first 8 bytes of the RAM are used for the clock, calendar, and counter functions. The next 8 bytes can be programmed as alarm registers or used as free RAM space. The remaining 240 bytes are free RAM locations.    AAL Eindhoven MK
footprint SOT176-1
pins: 1 OSCI, 2 OSCO, 3 A0 (power), 4 VSS (power), 5 SDA, 6 SCL, 7 !INT1! (out), 8 VDD (power)

## PCF8593P
designator U?, comment Low power clock and calendar The PCF8593 is a CMOS clock and calendar circuit, optimized for low power consumption. Addresses and data are transferred serially via the two-line bidirectional I2C-bus. The built-in word address register is incremented automatically after each written or read data byte. The built-in 32.768 kHz oscillator circuit and the first 8 bytes of the RAM are used for the clock, calendar, and counter functions. The next 8 bytes can be programmed as alarm registers or used as free RAM space.    AAL Eindhoven MK
footprint SOT97-1
pins: 1 OSCI, 2 OSCO, 3 !RESET, 4 VSS (power), 5 SDA, 6 SCL, 7 !INT1! (out), 8 VDD (power)

## PCF8593T
designator U?, comment Low power clock and calendar The PCF8593 is a CMOS clock and calendar circuit, optimized for low power consumption. Addresses and data are transferred serially via the two-line bidirectional I2C-bus. The built-in word address register is incremented automatically after each written or read data byte. The built-in 32.768 kHz oscillator circuit and the first 8 bytes of the RAM are used for the clock, calendar, and counter functions. The next 8 bytes can be programmed as alarm registers or used as free RAM space.    AAL Eindhoven MK
footprint SOT96-1
pins: 1 OSCI, 2 OSCO, 3 !RESET, 4 VSS (power), 5 SDA, 6 SCL, 7 !INT1! (out), 8 VDD (power)

## PCF8594CC-2P/02
designator U?, comment The PCF8594C-2 is a ?oating gate Electrically Erasable Programmable Read Only Memory (EEPROM) with 4 kbits (512 × 8-bit) non-volatile storage.    AAL Eindhoven MK
footprint SOT97-1
pins: 1 WP, 2 A1, 3 A2, 4 GND (power), 5 SDA, 6 SCL, 7 PTC, 8 VCC (power)

## PCF8594CC-2T/02
designator U?, comment The PCF8594C-2 is a ?oating gate Electrically Erasable Programmable Read Only Memory (EEPROM) with 4 kbits (512 × 8-bit) non-volatile storage.    AAL Eindhoven MK
SAMPLEDESK: 12NC935195550118
footprint SOT96-1
pins: 1 WP, 2 A1, 3 A2, 4 GND (power), 5 SDA, 6 SCL, 7 PTC, 8 VCC (power)

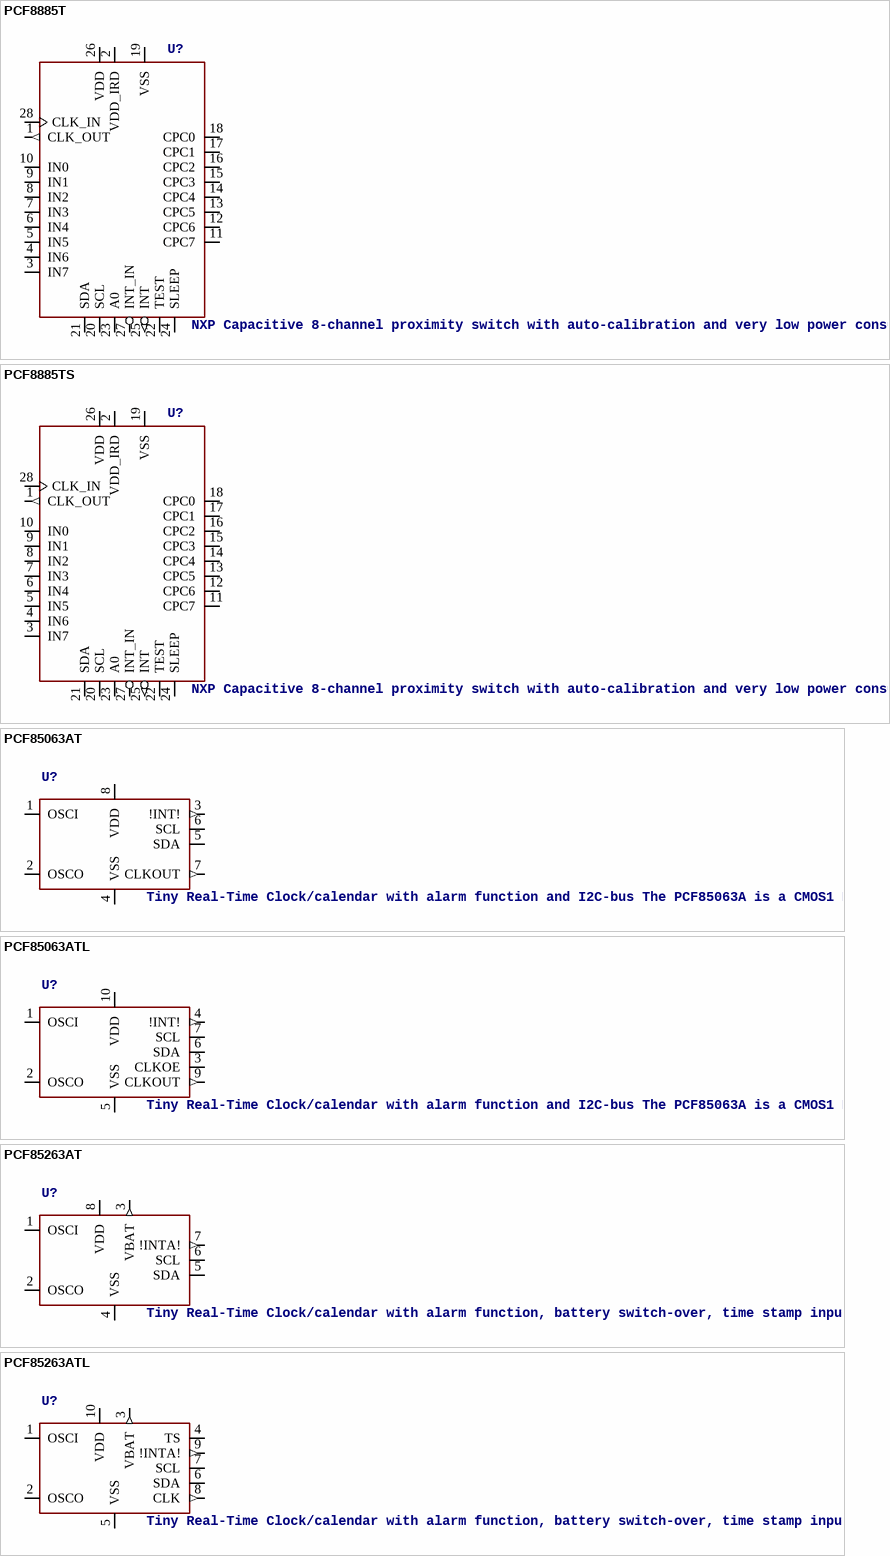
[diagram p165: symbols PCF8885T to PCF85263ATL]

## PCF8885T
designator U?, comment NXP Capacitive 8-channel proximity switch with auto-calibration and very low power consumption   AAL Eindhoven MK
footprint SOT136-1
pins: 1 CLK_OUT (out), 2 VDD_IRD (power), 3 IN7, 4 IN6, 5 IN5, 6 IN4, 7 IN3, 8 IN2, 9 IN1, 10 IN0, 11 CPC7, 12 CPC6, 13 CPC5, 14 CPC4, 15 CPC3, 16 CPC2, 17 CPC1, 18 CPC0, 19 VSS (power), 20 SCL, 21 SDA, 22 TEST, 23 A0, 24 SLEEP, 25 INT (out), 26 VDD (power), 27 INT_IN, 28 CLK_IN

## PCF8885TS
designator U?, comment NXP Capacitive 8-channel proximity switch with auto-calibration and very low power consumption   AAL Eindhoven MK
footprint SOT361-1
pins: 1 CLK_OUT (out), 2 VDD_IRD (power), 3 IN7, 4 IN6, 5 IN5, 6 IN4, 7 IN3, 8 IN2, 9 IN1, 10 IN0, 11 CPC7, 12 CPC6, 13 CPC5, 14 CPC4, 15 CPC3, 16 CPC2, 17 CPC1, 18 CPC0, 19 VSS (power), 20 SCL, 21 SDA, 22 TEST, 23 A0, 24 SLEEP, 25 INT (out), 26 VDD (power), 27 INT_IN, 28 CLK_IN

## PCF85063AT
designator U?, comment Tiny Real-Time Clock/calendar with alarm function and I2C-bus The PCF85063A is a CMOS1 Real-Time Clock (RTC) and calendar optimized for low power consumption. An offset register allows fine-tuning of the clock. All addresses and data are transferred serially via the two-line bidirectional I2C-bus. Maximum data rate is 400 kbit/s. The register address is incremented automatically after each written or read data byte.    AAL Eindhoven MK
footprint SOT96-1
pins: 1 OSCI, 2 OSCO, 3 !INT! (out), 4 VSS (power), 5 SDA, 6 SCL, 7 CLKOUT (out), 8 VDD (power)

## PCF85063ATL
designator U?, comment Tiny Real-Time Clock/calendar with alarm function and I2C-bus The PCF85063A is a CMOS1 Real-Time Clock (RTC) and calendar optimized for low power consumption. An offset register allows fine-tuning of the clock. All addresses and data are transferred serially via the two-line bidirectional I2C-bus. Maximum data rate is 400 kbit/s. The register address is incremented automatically after each written or read data byte.    AAL Eindhoven MK
footprint SOT1197-1
pins: 1 OSCI, 2 OSCO, 3 CLKOE, 4 !INT! (out), 5 VSS (power), 6 SDA, 7 SCL, 9 CLKOUT (out), 10 VDD (power)

## PCF85263AT
designator U?, comment Tiny Real-Time Clock/calendar with alarm function, battery switch-over, time stamp input, and I2C-bus The PCF85263A is a CMOS1 Real-Time Clock (RTC) and calendar optimized for low power consumption and with automatic switching to battery on main power loss. The RTC can also be configured as a stop-watch (elapsed time counter). Three time log registers triggered from battery switch-over as well as input driven events. Featuring clock output and two independent interrupt signals, two alarms, I2C interface and quartz crystal calibration.    AAL Eindhoven MK
footprint SOT96-1
pins: 1 OSCI, 2 OSCO, 3 VBAT (out), 4 VSS (power), 5 SDA, 6 SCL, 7 !INTA! (out), 8 VDD (power)

## PCF85263ATL
designator U?, comment Tiny Real-Time Clock/calendar with alarm function, battery switch-over, time stamp input, and I2C-bus The PCF85263A is a CMOS1 Real-Time Clock (RTC) and calendar optimized for low power consumption and with automatic switching to battery on main power loss. The RTC can also be configured as a stop-watch (elapsed time counter). Three time log registers triggered from battery switch-over as well as input driven events. Featuring clock output and two independent interrupt signals, two alarms, I2C interface and quartz crystal calibration.    AAL Eindhoven MK
footprint SOT1197-1
pins: 1 OSCI, 2 OSCO, 3 VBAT (out), 4 TS, 5 VSS (power), 6 SDA, 7 SCL, 8 CLK (out), 9 !INTA! (out), 10 VDD (power)

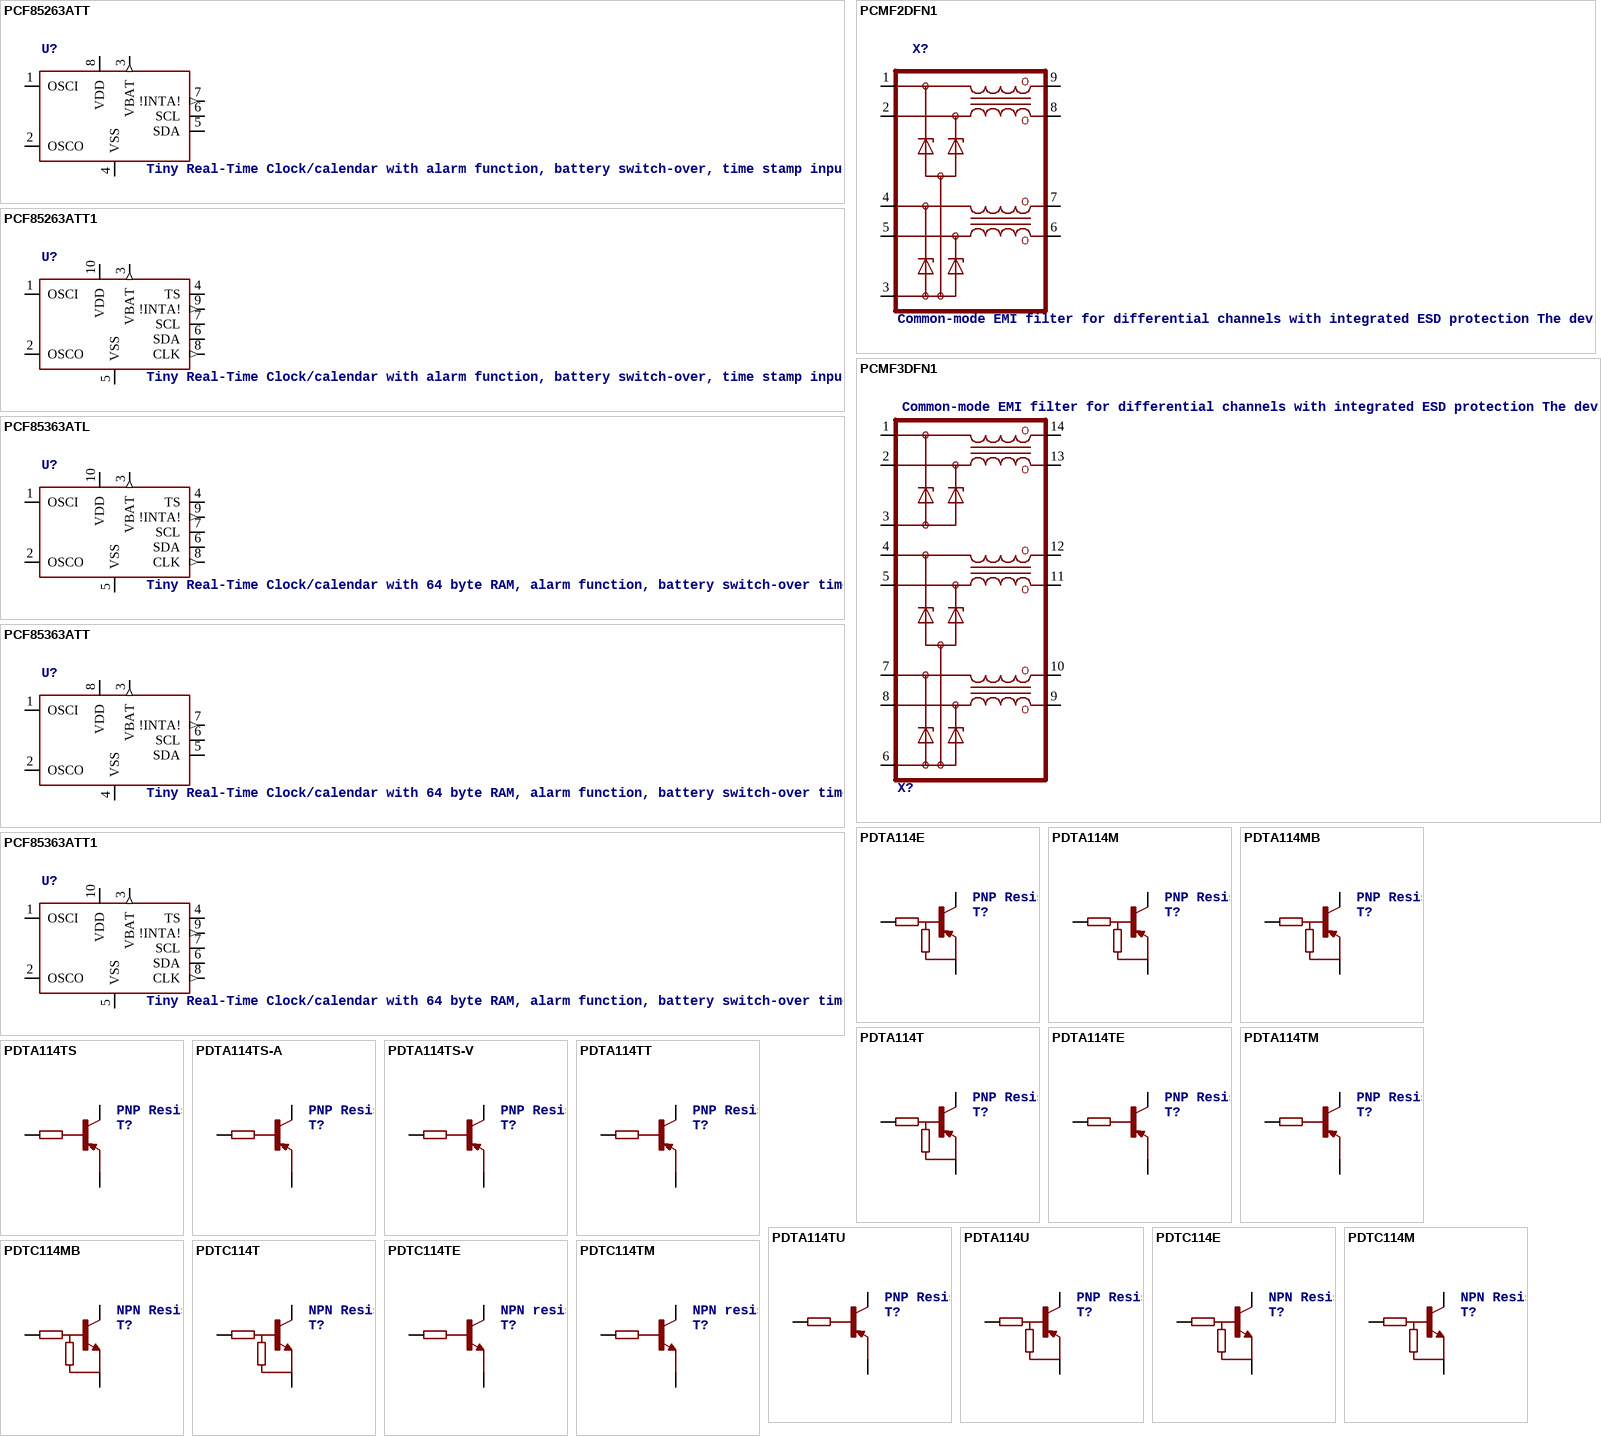
[diagram p166: symbols PCF85263ATT to PDTC114TM]

## PCF85263ATT
designator U?, comment Tiny Real-Time Clock/calendar with alarm function, battery switch-over, time stamp input, and I2C-bus The PCF85263A is a CMOS1 Real-Time Clock (RTC) and calendar optimized for low power consumption and with automatic switching to battery on main power loss. The RTC can also be configured as a stop-watch (elapsed time counter). Three time log registers triggered from battery switch-over as well as input driven events. Featuring clock output and two independent interrupt signals, two alarms, I2C interface and quartz crystal calibration.    AAL Eindhoven MK
footprint SOT505-1
pins: 1 OSCI, 2 OSCO, 3 VBAT (out), 4 VSS (power), 5 SDA, 6 SCL, 7 !INTA! (out), 8 VDD (power)

## PCF85263ATT1
designator U?, comment Tiny Real-Time Clock/calendar with alarm function, battery switch-over, time stamp input, and I2C-bus The PCF85263A is a CMOS1 Real-Time Clock (RTC) and calendar optimized for low power consumption and with automatic switching to battery on main power loss. The RTC can also be configured as a stop-watch (elapsed time counter). Three time log registers triggered from battery switch-over as well as input driven events. Featuring clock output and two independent interrupt signals, two alarms, I2C interface and quartz crystal calibration.    AAL Eindhoven MK
footprint SOT552-1
pins: 1 OSCI, 2 OSCO, 3 VBAT (out), 4 TS, 5 VSS (power), 6 SDA, 7 SCL, 8 CLK (out), 9 !INTA! (out), 10 VDD (power)